# EAGLE library part HEADER1X10 (library robots)
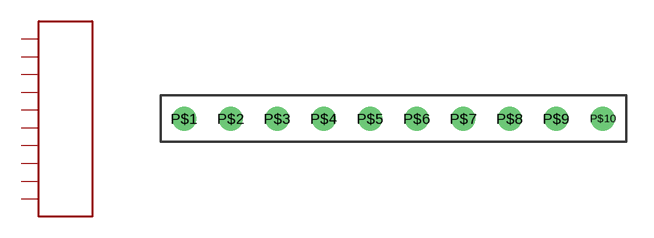
[diagram p15: symbol with the pads of 1X10; footprint 1X10]

Designator prefix -

## HEADER1X10  [1X10]
P$1  P$1
P$2  P$2
P$3  P$3
P$4  P$4
P$5  P$5
P$6  P$6
P$7  P$7
P$8  P$8
P$9  P$9
P$10  P$10

## Footprint 1X10 (pad centres in mm)
drill 0.8 round: P$1 0,0; P$2 2.54,0; P$3 5.08,0; P$4 7.62,0; P$5 10.16,0; P$6 12.7,0; P$7 15.24,0; P$8 17.78,0; P$9 20.32,0; P$10 22.86,0